# Altium schematic symbol library RFSW.SchLib: 1 symbol
Pins are listed as number, name and electrical type; pins without a type are passive.

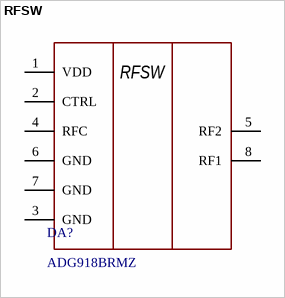
[diagram p0: symbol RFSW]

## RFSW
designator DA?, comment ADG918BRMZ
RF Switch, Wideband 4 GHz, 43 dB Isolation at 1 GHz, CMOS 1.65 V to 2.75 V, 2:1 Mux/SPDT, RM-8, Pb-Frexe, 50 Tube
pins: 1 VDD "Power Supply Input. These parts can be operated from 1.65 V to 2.75 V, and VDD should be decoupled to GND.", 2 CTRL "Logic Control Input.", 3 GND "Ground Reference Point for All Circuitry on the Part.", 4 RFC "COMMON RF Port for Switch.", 5 RF2 "RF2 Port.", 6 GND "Ground Reference Point for All Circuitry on the Part.", 7 GND "Ground Reference Point for All Circuitry on the Part.", 8 RF1 "RF1 Port."